# Altium schematic symbol library SWButton.SchLib: 1 symbol
Pins are listed as number, name and electrical type; pins without a type are passive.

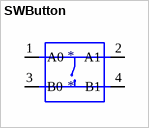
[diagram p0: symbol SWButton]

## SWButton
designator *
footprint SW4-SMD-5.2X5.2X1.5MM
pins: 1 A0 (io), 2 A1 (io), 3 B0 (io), 4 B1 (io)